# EAGLE library part LT1457 (library IC)
Linear Technology LT1457 Dual, Precision JFET Input Op Amp
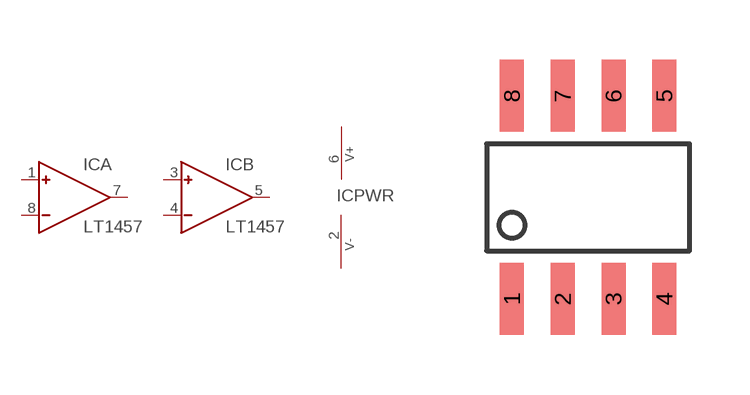
[diagram p134: symbol with the pads of SOIC8; footprint SOIC8]

Designator prefix IC; gates A=OPAMP B=OPAMP PWR=PWR_V+_V-

## LT1457S8  [SOIC8]
1  A:IN+  in
2  PWR:V-  pwr
3  B:IN+  in
4  B:IN-  in
5  B:OUT  out
6  PWR:V+  pwr
7  A:OUT  out
8  A:IN-  in

## Footprint SOIC8 (pad centres in mm)
8 pin SOIC 150-mil package
smd 0.6 x 1.8: 1 -1.905,-2.54; 2 -0.635,-2.54; 3 0.635,-2.54; 4 1.905,-2.54; 5 1.905,2.54; 6 0.635,2.54; 7 -0.635,2.54; 8 -1.905,2.54